# Altium footprint library Molex KK (2.54)-100.PcbLib: 5 footprints
Each footprint in its own frame and in the unit in brackets; x right, y up, seen from the top. Pads: shape width x height; smd on the part's side, far side on the other; paste and mask are expansions set on the pad; w line width, h text height; cw(c..) or ccw(c..) is an arc to the next point about the centre after c.
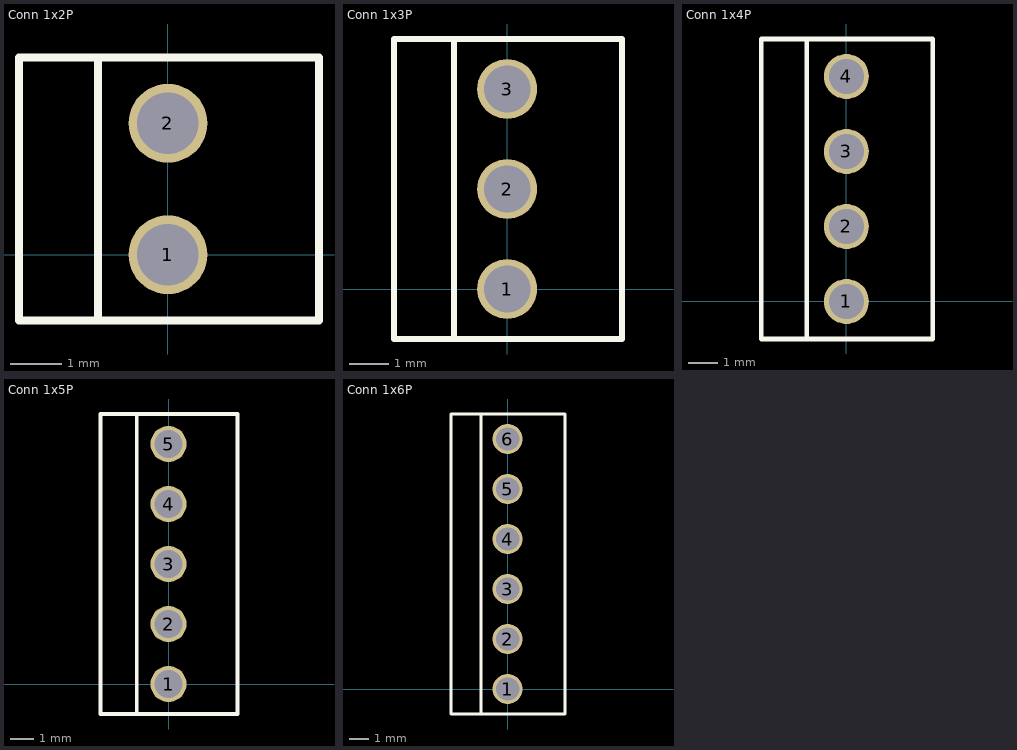
[diagram p0: the footprints below, top view; thin cyan lines are the x and y axes]

## Conn 1x2P [mil] "WAFER, FRICTION LOCK  KK (2.54)/.100 FOR (0.64)/.025 SQ. PINS"
pads (2):
  round 60 hole 46.85: 1(0,0) 2(0,100)
Top Overlay:
  lines w6.02: -53.15,-49.76 -53.15,150 ; -113.39,-50 -113.39,150 114.96,150 114.96,-50 -113.39,-50

## Conn 1x3P [mil] "WAFER, FRICTION LOCK  KK (2.54)/.100 FOR (0.64)/.025 SQ. PINS"
pads (3):
  round 60 hole 46.85: 1(0,0) 2(0,100) 3(0,200)
Top Overlay:
  lines w6.02: -53.15,-50 -53.15,250 ; -113.39,-50 -113.39,250 114.96,250 114.96,-50 -113.39,-50

## Conn 1x4P [mil] "WAFER, FRICTION LOCK  KK (2.54)/.100 FOR (0.64)/.025 SQ. PINS"
pads (4):
  round 60 hole 46.85: 1(0,0) 2(0,100) 3(0,200) 4(0,300)
Top Overlay:
  lines w6.02: -53.15,-50 -53.15,350 ; -113.39,-50 -113.39,350 114.96,350 114.96,-50 -113.39,-50

## Conn 1x5P [mil] "WAFER, FRICTION LOCK  KK (2.54)/.100 FOR (0.64)/.025 SQ. PINS"
pads (5):
  round 60 hole 46.85: 1(0,0) 2(0,100) 3(0,200) 4(0,300) 5(0,400)
Top Overlay:
  lines w6.02: -53.15,-50 -53.15,450 ; -113.39,-50 114.96,-50 114.96,450 -113.39,450 -113.39,-50

## Conn 1x6P [mil] "WAFER, FRICTION LOCK  KK (2.54)/.100 FOR (0.64)/.025 SQ. PINS"
pads (6):
  round 60 hole 46.85: 1(0,0) 2(0,100) 3(0,200) 4(0,300) 5(0,400) 6(0,500)
Top Overlay:
  lines w6.02: -53.15,-50 -53.15,550 ; -113.39,-50 114.96,-50 114.96,550 -113.39,550 -113.39,-50